# EAGLE library part ATNGW100_EXT1 (library balto)
PIN HEADER
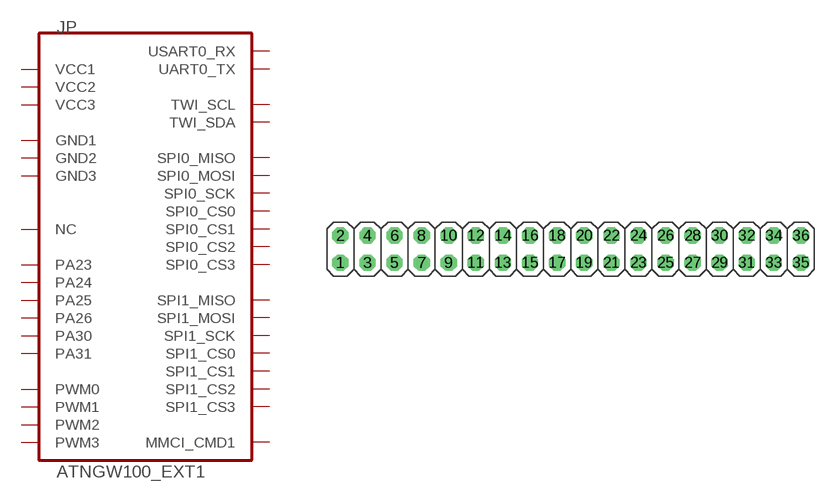
[diagram p3: symbol with the pads of 2X18; footprint 2X18]

Designator prefix JP

## ATNGW100_EXT1  [2X18]
1  VCC1  pas
2  GND1  pas
3  SPI0_MISO  pas
4  SPI0_MOSI  pas
5  SPI0_SCK  pas
6  SPI0_CS0  pas
7  SPI0_CS1  pas
8  SPI0_CS2  pas
9  TWI_SDA  pas
10  TWI_SCL  pas
11  USART0_RX  pas
12  UART0_TX  pas
13  PWM2  pas
14  PWM3  pas
15  PA23  pas
16  PA24  pas
17  PA25  pas
18  PA26  pas
19  SPI1_CS3  pas
20  PWM0  pas
21  PWM1  pas
22  PA30  pas
23  PA31  pas
24  SPI1_MISO  pas
25  SPI1_MOSI  pas
26  SPI1_CS0  pas
27  SPI1_CS1  pas
28  SPI1_CS2  pas
29  SPI1_SCK  pas
30  MMCI_CMD1  pas
31  SPI0_CS3  pas
32  NC  pas
33  VCC2  pas
34  GND2  pas
35  VCC3  pas
36  GND3  pas

## Footprint 2X18 (pad centres in mm)
PIN HEADER
drill 1.016 octagon: 1 -21.59,-1.27; 2 -21.59,1.27; 3 -19.05,-1.27; 4 -19.05,1.27; 5 -16.51,-1.27; 6 -16.51,1.27; 7 -13.97,-1.27; 8 -13.97,1.27; 9 -11.43,-1.27; 10 -11.43,1.27; 11 -8.89,-1.27; 12 -8.89,1.27; 13 -6.35,-1.27; 14 -6.35,1.27; 15 -3.81,-1.27; 16 -3.81,1.27; 17 -1.27,-1.27; 18 -1.27,1.27; 19 1.27,-1.27; 20 1.27,1.27; 21 3.81,-1.27; 22 3.81,1.27; 23 6.35,-1.27; 24 6.35,1.27; 25 8.89,-1.27; 26 8.89,1.27; 27 11.43,-1.27; 28 11.43,1.27; 29 13.97,-1.27; 30 13.97,1.27; 31 16.51,-1.27; 32 16.51,1.27; 33 19.05,-1.27; 34 19.05,1.27; 35 21.59,-1.27; 36 21.59,1.27